# EAGLE library part GM862-GPS (library telit-modules (2))
Telit GM862-GPS
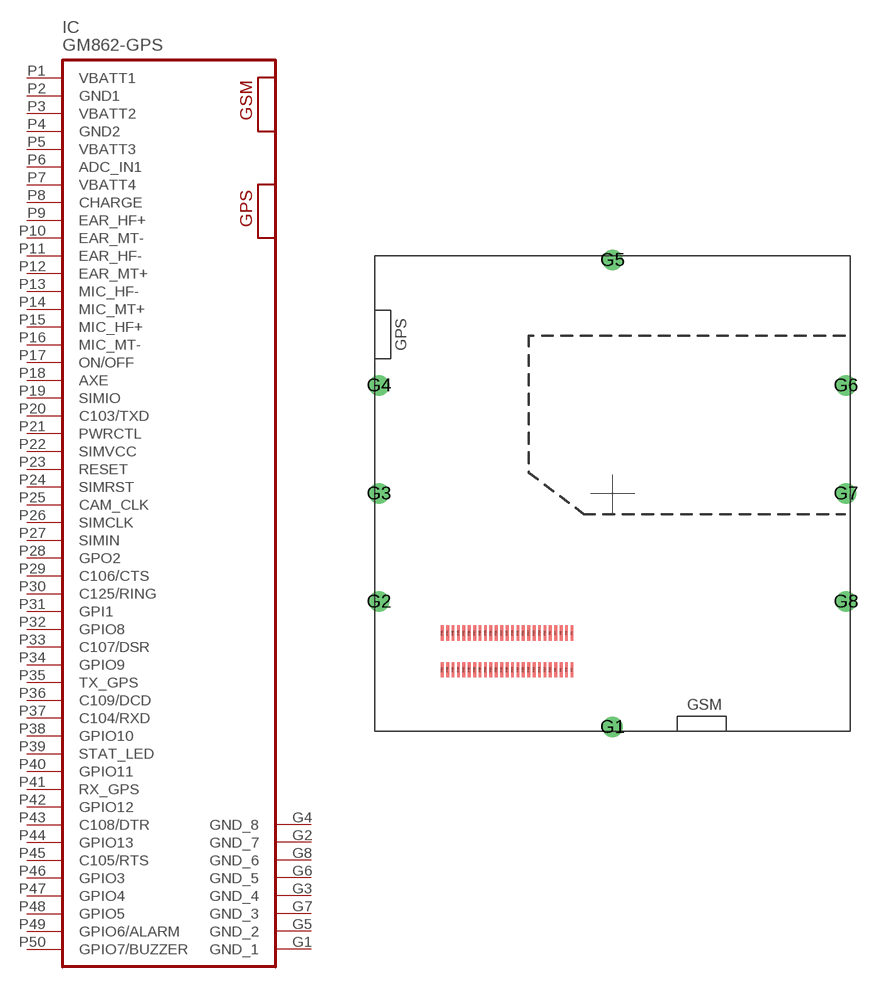
[diagram p7: symbol with the pads of GM862-GPS; footprint GM862-GPS]

Designator prefix IC

## GM862-GPS  [GM862-GPS]
G1  GND_1  pwr
G2  GND_7  pwr
G3  GND_4  pwr
G4  GND_8  pwr
G5  GND_2  pwr
G6  GND_5  pwr
G7  GND_3  pwr
G8  GND_6  pwr
P1  VBATT1  pwr
P2  GND1  pwr
P3  VBATT2  pwr
P4  GND2  pwr
P5  VBATT3  pwr
P6  ADC_IN1  pwr
P7  VBATT4  pwr
P8  CHARGE  pwr
P9  EAR_HF+  pas
P10  EAR_MT-  pas
P11  EAR_HF-  pas
P12  EAR_MT+  pas
P13  MIC_HF-  pas
P14  MIC_MT+  pas
P15  MIC_HF+  pas
P16  MIC_MT-  pas
P17  ON/OFF  in
P18  AXE  in
P19  SIMIO
P20  C103/TXD  in
P21  PWRCTL  out
P22  SIMVCC  pas
P23  RESET  in
P24  SIMRST  out
P25  CAM_CLK  pas
P26  SIMCLK  out
P27  SIMIN
P28  GPO2  out
P29  C106/CTS  out
P30  C125/RING  out
P31  GPI1  in
P32  GPIO8  pas
P33  C107/DSR  out
P34  GPIO9  pas
P35  TX_GPS  out
P36  C109/DCD  out
P37  C104/RXD  out
P38  GPIO10  pas
P39  STAT_LED  out
P40  GPIO11  pas
P41  RX_GPS  pas
P42  GPIO12  pas
P43  C108/DTR  in
P44  GPIO13  pas
P45  C105/RTS  in
P46  GPIO3
P47  GPIO4
P48  GPIO5
P49  GPIO6/ALARM
P50  GPIO7/BUZZER

## Footprint GM862-GPS (pad centres in mm)
drill 1.27: G1 -0.017,-21.605; G2 -21.617,-10.005; G3 -21.617,-0.005; G4 -21.617,9.995; G5 -0.017,21.595; G6 21.583,9.995; G7 21.583,-0.005; G8 21.583,-10.005
smd 0.26 x 1.4: P1 -3.767,-12.905; P2 -3.767,-16.305; P3 -4.267,-12.905; P4 -4.267,-16.305; P5 -4.767,-12.905; P6 -4.767,-16.305; P7 -5.267,-12.905; P8 -5.267,-16.305; P9 -5.767,-12.905; P10 -5.767,-16.305; P11 -6.267,-12.905; P12 -6.267,-16.305; P13 -6.767,-12.905; P14 -6.767,-16.305; P15 -7.267,-12.905; P16 -7.267,-16.305; P17 -7.767,-12.905; P18 -7.767,-16.305; P19 -8.267,-12.905; P20 -8.267,-16.305; P21 -8.767,-12.905; P22 -8.767,-16.305; P23 -9.267,-12.905; P24 -9.267,-16.305; P25 -9.767,-12.905; P26 -9.767,-16.305; P27 -10.267,-12.905; P28 -10.267,-16.305; P29 -10.767,-12.905; P30 -10.767,-16.305; P31 -11.267,-12.905; P32 -11.267,-16.305; P33 -11.767,-12.905; P34 -11.767,-16.305; P35 -12.267,-12.905; P36 -12.267,-16.305; P37 -12.767,-12.905; P38 -12.767,-16.305; P39 -13.267,-12.905; P40 -13.267,-16.305; P41 -13.767,-12.905; P42 -13.767,-16.305; P43 -14.267,-12.905; P44 -14.267,-16.305; P45 -14.767,-12.905; P46 -14.767,-16.305; P47 -15.267,-12.905; P48 -15.267,-16.305; P49 -15.767,-12.905; P50 -15.767,-16.305